# Altium schematic symbol library Resistors-CurrentSense.SchLib: 1 symbol
Pins are listed as number, name and electrical type; pins without a type are passive.

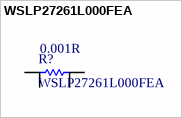
[diagram p0: symbol WSLP27261L000FEA]

## WSLP27261L000FEA
designator R?  value 0.001R
Current Sense Resistor, 0.0005R; Manufacturer: Vishay / Dale; Power: 7W; Tolerance: 1%; PartNumber: WSLP27261L000FEA; PackageReference: 2726; Mounting Technology: Surface Mount
simulation model RESISTOR (Resistor)
signal-integrity model Res
footprint WSL2726
pins: 1, 2, 3, 4